# Altium footprint library HDR_1X13P2.54-BB_14.PcbLib: 1 footprints
Each footprint in its own frame and in the unit in brackets; x right, y up, seen from the top. Pads: shape width x height; smd on the part's side, far side on the other; paste and mask are expansions set on the pad; w line width, h text height; cw(c..) or ccw(c..) is an arc to the next point about the centre after c.
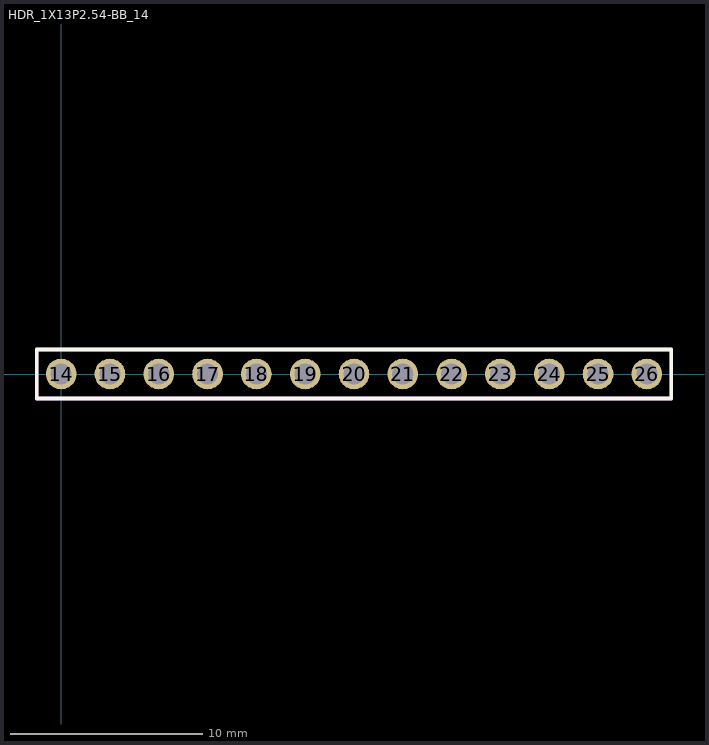
[diagram p0: the footprint, top view; thin cyan lines are the x and y axes]

## HDR_1X13P2.54-BB_14 [mm] "13 pins, 1 row, straight, gold plating"
height 8.54
pads (13):
  round 1.6 hole 1.1: 14(0,0) 15(2.54,0) 16(5.08,0) 17(7.62,0) 18(10.16,0) 19(12.7,0) 20(15.24,0) 21(17.78,0) 22(20.32,0) 23(22.86,0) 24(25.4,0) 25(27.94,0) 26(30.48,0)
Top Overlay:
  lines w0.2: -1.27,-1.27 -1.27,1.27 0.635,1.27 31.75,1.27 31.75,-1.27 -1.27,-1.27
Mechanical 13:
  lines w0.1: -1.27,-1.27 31.75,-1.27 31.75,1.27 -1.27,1.27 -1.27,-1.27
Mechanical 15:
  lines w0.1: -1.32,-1.32 31.8,-1.32 31.8,1.32 -1.32,1.32 -1.32,-1.32
Mechanical 29:
  lines w0.2: -1.27,-1.27 -1.27,1.27 0.635,1.27 31.75,1.27 31.75,-1.27 -1.27,-1.27
  text ".Designator" at 14.605,-0.508 h1.52
3D body: height 8.54, standoff -3, extent -1.27,-1.27 31.75,1.27